# Altium footprint library LED-0805.PcbLib: 1 footprints
Each footprint in its own frame and in the unit in brackets; x right, y up, seen from the top. Pads: shape width x height; smd on the part's side, far side on the other; paste and mask are expansions set on the pad; w line width, h text height; cw(c..) or ccw(c..) is an arc to the next point about the centre after c.
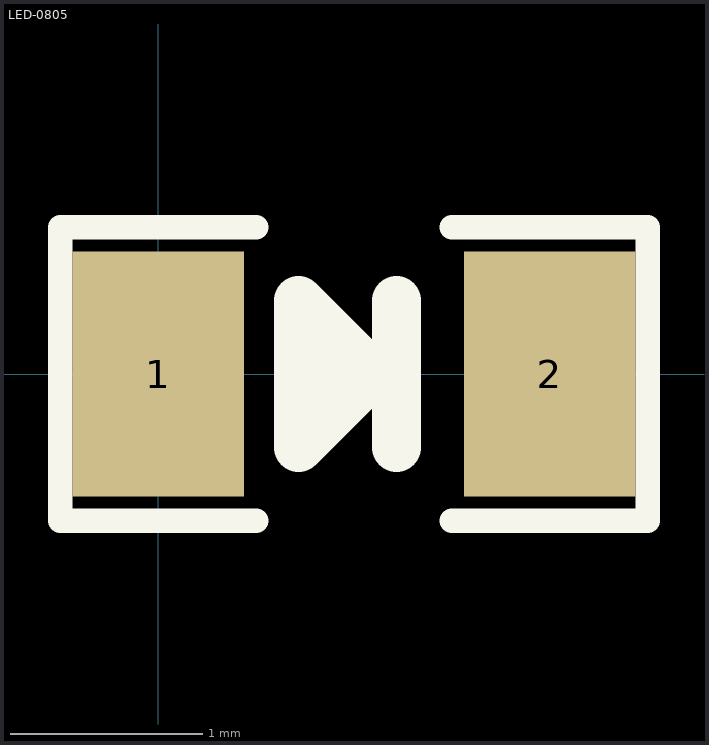
[diagram p0: the footprint, top view; thin cyan lines are the x and y axes]

## LED-0805 [mil]
height 50
pads (2):
  rect 35x50 smd: 1(0,0) 2(80,0)
Top Overlay:
  lines w5: 20,-30 -20,-30 -20,30 20,30 ; 60,-30 100,-30 100,30 60,30
  lines w10: 28.84,0.22 38.84,0.22 ; 48.7,-15 48.7,15 ; 28.7,-15 43.7,0 28.7,15 28.7,0 28.7,-15
3D body "LED-0805-white.step": height 43.31, standoff 0, extent 0.59,-24.6 80.12,24.61